# EAGLE library part WE-UNIT_STM_750871110 (library wurth_elektronik_passive_rev16d)
Off-Line Transformer WE-Unit STM - Nominal input voltage: 85-265 VAC - Operating temperature: -40°C to +125 °C - Isolation voltage 4 kVAC -- Especially designed for several ICs from STMicroelectronics VIPer 28 -- Universal input -- Offline-switch mode power supplies <http://katalog.we-online.de/media/images/ctm/UtUNIT_STM_pf2.jpg> Details see: http://katalog.we-online.de/en/ctm/MID-UNIT_STM/750871110? Updated by Dan Xu 2014-07-11 2014 (C) Würth Elektronik
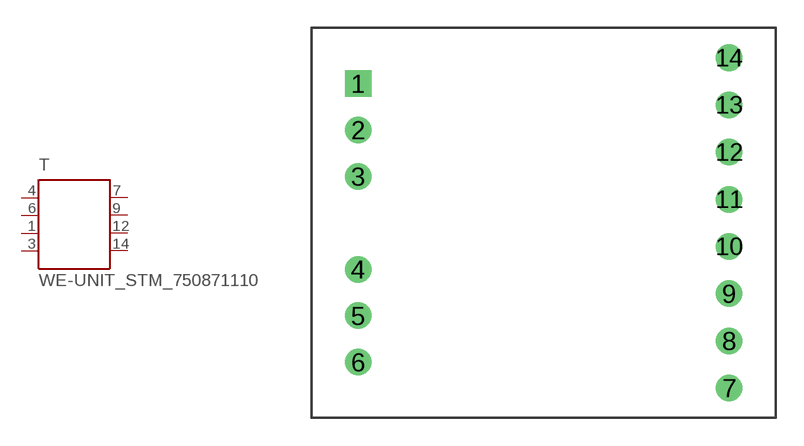
[diagram p67: symbol with the pads of WE_EE20/10/6_THT_HORIZONTAL_14PIN_1; footprint WE_EE20/10/6_THT_HORIZONTAL_14PIN_1]

Designator prefix T

## WE-UNIT_STM_750871110  [WE_EE20/10/6_THT_HORIZONTAL_14PIN_1]
1  2  pas
3  1  pas
4  4  pas
6  3  pas
7  5  pas
9  6  pas
12  7  pas
14  8  pas

## Footprint WE_EE20/10/6_THT_HORIZONTAL_14PIN_1 (pad centres in mm)
Transformer, EE20/10/6 THT Horizontal 14Pin
drill 0.92 square: 1 -10,7.5
drill 0.92: 2 -10,5; 3 -10,2.5; 4 -10,-2.5; 5 -10,-5; 6 -10,-7.5; 7 10,-8.89; 8 10,-6.35; 9 10,-3.81; 10 10,-1.27; 11 10,1.27; 12 10,3.81; 13 10,6.35; 14 10,8.89